# EAGLE library part BACKPLANE_GENERIC_MODULE (library signpost)
Signpost generic module recepticle
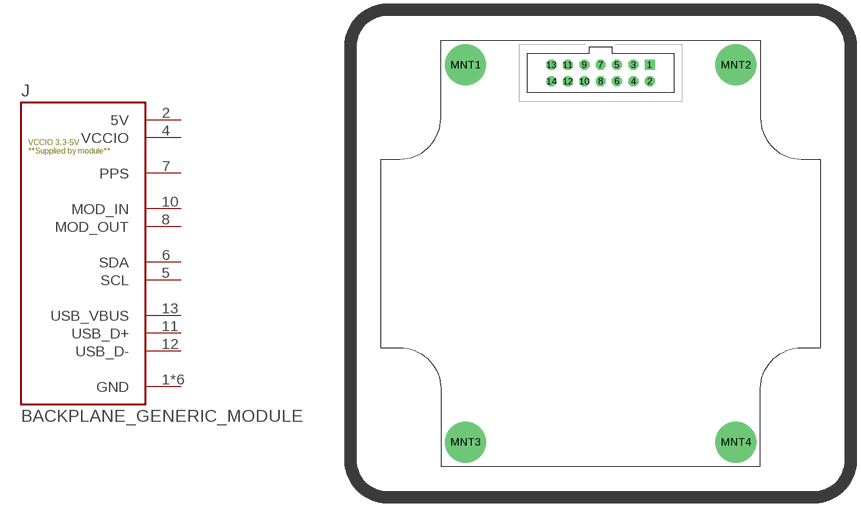
[diagram p0: symbol with the pads of BACKPLANE_MODULE_14PIN; footprint BACKPLANE_MODULE_14PIN]

Designator prefix J

## BACKPLANE_GENERIC_MODULE (DIGIKEY: S9195-ND)  [BACKPLANE_MODULE_14PIN]
1  GND
2  5V
4  VCCIO
5  SCL
6  SDA
7  PPS
8  MOD_OUT
10  MOD_IN
11  USB_D+
12  USB_D-
13  USB_VBUS
14  GND
MNT1  GND
MNT2  GND
MNT3  GND
MNT4  GND

## Footprint BACKPLANE_MODULE_14PIN (pad centres in mm)
drill 1.016 square: 1 7.62,29.21
drill 1.016 octagon: 2 7.62,26.67; 3 5.08,29.21; 4 5.08,26.67; 5 2.54,29.21; 6 2.54,26.67; 7 0,29.21; 8 0,26.67; 9 -2.54,29.21; 10 -2.54,26.67; 11 -5.08,29.21; 12 -5.08,26.67; 13 -7.62,29.21; 14 -7.62,26.67
drill 2.946 pad 6.35: MNT1 -20.955,29.21; MNT2 20.955,29.21; MNT3 -20.955,-29.21; MNT4 20.955,-29.21